# EAGLE library part TS3001 (library Regulator)
The TS30011 (1A), TS30012 (2A) and TS30013 (3A) are DC/DC synchronous switching regulator with fully integrated power switches, internal compensation, and full fault protection. The switching frequency of 1MHz enables the use of small filter components resulting in minimal board space and reduced BOM costs. The TS30011/12/13 utilizes current mode feedback in normal regulation PWM mode. When the regulator is placed in standby (EN is low), the device draws less than 10uA quiescent current. The TS30011/12/13 integrates a wide range of protection circuitry including input supply under-voltage lockout, output voltage soft start, current limit, and thermal shutdown. The TS30011/12/13 includes supervisory reporting through the PG (Power Good) open drain output to interface other components in the system.
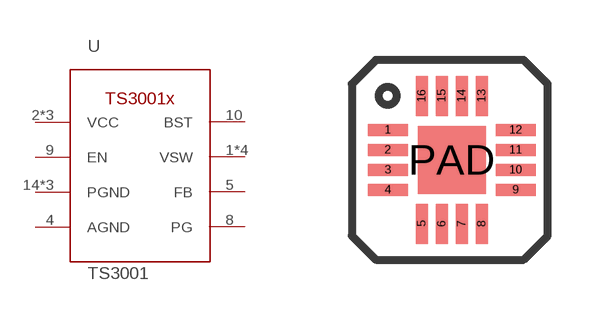
[diagram p8: symbol with the pads of QFN-16(3X3); footprint QFN-16(3X3)]

Designator prefix U

## TS30011-M033QFNR  [QFN-16(3X3)]
1  VSW
2  VCC  pwr
3  VCC  pwr
4  AGND  pwr
5  FB
8  PG
9  EN
10  BST
11  VCC  pwr
12  VSW
13  VSW
14  PGND  pwr
15  PGND  pwr
16  VSW
PAD  PGND  pwr

## Footprint QFN-16(3X3) (pad centres in mm)
smd 1 x 0.3: 1 -1.6,0.75; 2 -1.6,0.25; 3 -1.6,-0.25; 4 -1.6,-0.75; 9 1.6,-0.75; 10 1.6,-0.25; 11 1.6,0.25; 12 1.6,0.75
smd 0.3 x 1: 5 -0.75,-1.6; 6 -0.25,-1.6; 7 0.25,-1.6; 8 0.75,-1.6; 13 0.75,1.6; 14 0.25,1.6; 15 -0.25,1.6; 16 -0.75,1.6
smd 1.7 x 1.7: PAD 0,0